# Altium integrated library NRF24L01.IntLib: 1 symbol
Pins are listed as number, name and electrical type; pins without a type are passive.

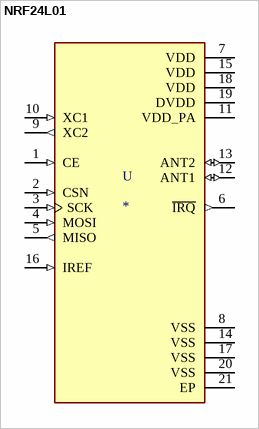
[diagram p0: symbol NRF24L01]

## NRF24L01
designator U
IC RF TxRx Only General ISM > 1GHZ 2.4GHz 20-VFQFN Exposed Pad; MP: NRF24L01+; MF: Nordic Semiconductor; Availability: Unavailable; Package: QFN-20 Nordic Semiconductor; SnapEDA_Link: https://www.snapeda.com/parts/NRF24L01%2B/Nordic%20Semiconductor%20ASA/view-part/1023904/?ref=snap; Value: *; Price: None
footprint QFN50P400X400X95-21N
pins: 1 CE (in), 2 CSN (in), 3 SCK (in), 4 MOSI (in), 5 MISO (out), 6 ~{IRQ} (out), 7 VDD (power), 8 VSS (power), 9 XC2 (out), 10 XC1 (in), 11 VDD_PA (power), 12 ANT1 (io), 13 ANT2 (io), 14 VSS (power), 15 VDD (power), 16 IREF (in), 17 VSS (power), 18 VDD (power), 19 DVDD (power), 20 VSS (power), 21 EP (power)